# Altium footprint library DPAK TO-252-2 FET.PcbLib: 1 footprints
Each footprint in its own frame and in the unit in brackets; x right, y up, seen from the top. Pads: shape width x height; smd on the part's side, far side on the other; paste and mask are expansions set on the pad; w line width, h text height; cw(c..) or ccw(c..) is an arc to the next point about the centre after c.
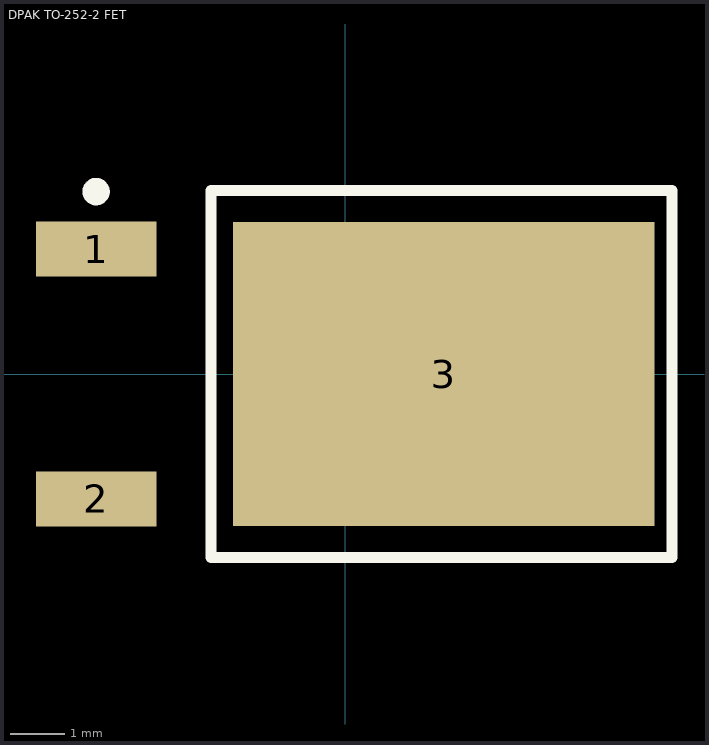
[diagram p0: the footprint, top view; thin cyan lines are the x and y axes]

## DPAK TO-252-2 FET [mm]
pads (3):
  rect 2.2x1 smd: 1(-4.55,2.28) 2(-4.55,-2.28)
  rect 7.7x5.55 smd: 3(1.8,0)
Top Overlay:
  circle w0.25: c-4.55,3.33 r0.125
  lines w0.2: -2.45,-3.35 -2.45,3.35 5.969,3.35 5.969,-3.35 -2.45,-3.35
3D body: height 2.41, standoff 0, extent -4.851,-3.277 5.087,3.263